# Altium footprint library SMD_button_footprint.PcbLib: 1 footprints
Each footprint in its own frame and in the unit in brackets; x right, y up, seen from the top. Pads: shape width x height; smd on the part's side, far side on the other; paste and mask are expansions set on the pad; w line width, h text height; cw(c..) or ccw(c..) is an arc to the next point about the centre after c.
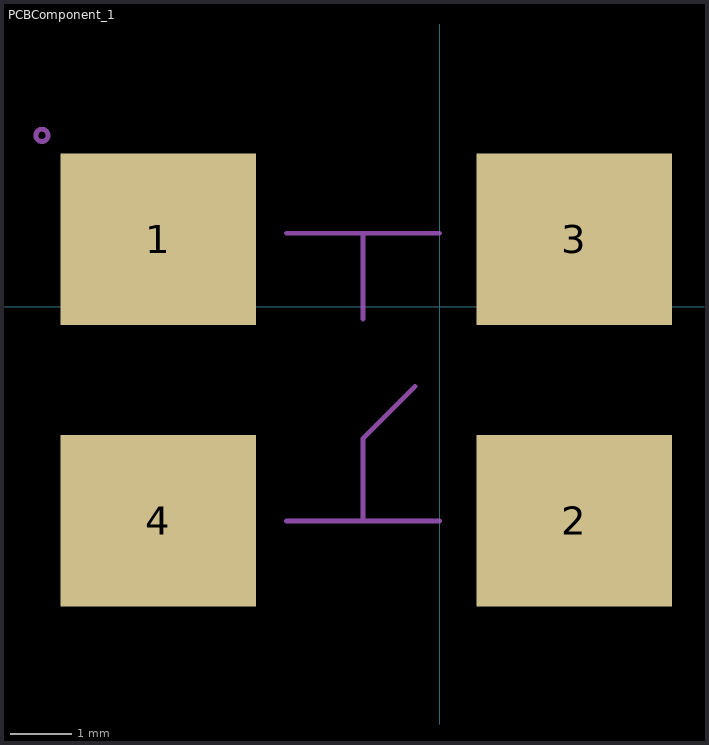
[diagram p0: the footprint, top view; thin cyan lines are the x and y axes]

## PCBComponent_1 [mm]
pads (4):
  rect 3.2x2.8 smd: 1(-4.6,1.1) 2(2.2,-3.5) 3(2.2,1.1) 4(-4.6,-3.5)
Mechanical 1:
  circle w0.08: c-6.5,2.8 r0.1
  lines w0.08: -2.5,-3.5 0,-3.5 ; -2.5,1.2 0,1.2 ; -1.25,-3.5 -1.25,-2.15 -0.4,-1.3 ; -1.25,-0.2 -1.25,1.2